# EAGLE library part LCD-14 (library machine_science)
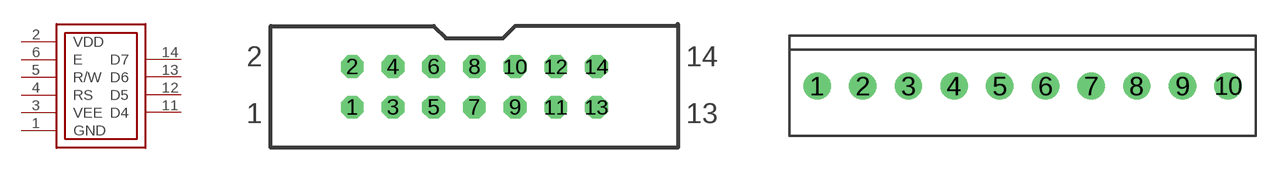
[diagram p24: symbol with the pads of J-ICD-14; footprints J-ICD-14, WM20XX_10PIN]

Designator prefix -

## LCD-14  [J-ICD-14]
1  GND  pwr
2  VDD  pwr
3  VEE  pwr
4  RS  pas
5  R/W  pas
6  E
11  D4
12  D5
13  D6
14  D7

## LCD-14MOLEX.1  [WM20XX_10PIN]
1  VDD  pwr
2  GND  pwr
3  VEE  pwr
4  RS  pas
5  R/W  pas
6  E
7  D4
8  D5
9  D6
10  D7

## LCD-14COG  [NHD-C0216AZ]
Pads as for J-ICD-14

## Footprint J-ICD-14 (pad centres in mm)
drill 0.914 octagon: 1 -7.62,-1.27; 2 -7.62,1.27; 3 -5.08,-1.27; 4 -5.08,1.27; 5 -2.54,-1.27; 6 -2.54,1.27; 7 0,-1.27; 8 0,1.27; 9 2.54,-1.27; 10 2.54,1.27; 11 5.08,-1.27; 12 5.08,1.27; 13 7.62,-1.27; 14 7.62,1.27

## Footprint WM20XX_10PIN (pad centres in mm)
drill 1.016 round: 1 -7.62,0; 2 -5.08,0; 3 -2.54,0; 4 0,0; 5 2.54,0; 6 5.08,0; 7 7.62,0; 8 10.16,0; 9 12.7,0; 10 15.24,0

## Footprint NHD-C0216AZ (pad centres in mm)
drill 0.6 round: 1 -9.75,0; 2 -8.25,0; 3 -6.75,0; 4 -5.25,0; 5 -3.75,0; 6 -2.25,0; 7 -0.75,0; 8 0.75,0; 9 2.25,0; 10 3.75,0; 11 5.25,0; 12 6.75,0; 13 8.25,0; 14 9.75,0